# Altium footprint library NSC Audio.PcbLib: 147 footprints (part 6 of 10)
Each footprint in its own frame and in the unit in brackets; x right, y up, seen from the top. Pads: shape width x height; smd on the part's side, far side on the other; paste and mask are expansions set on the pad; w line width, h text height; cw(c..) or ccw(c..) is an arc to the next point about the centre after c.
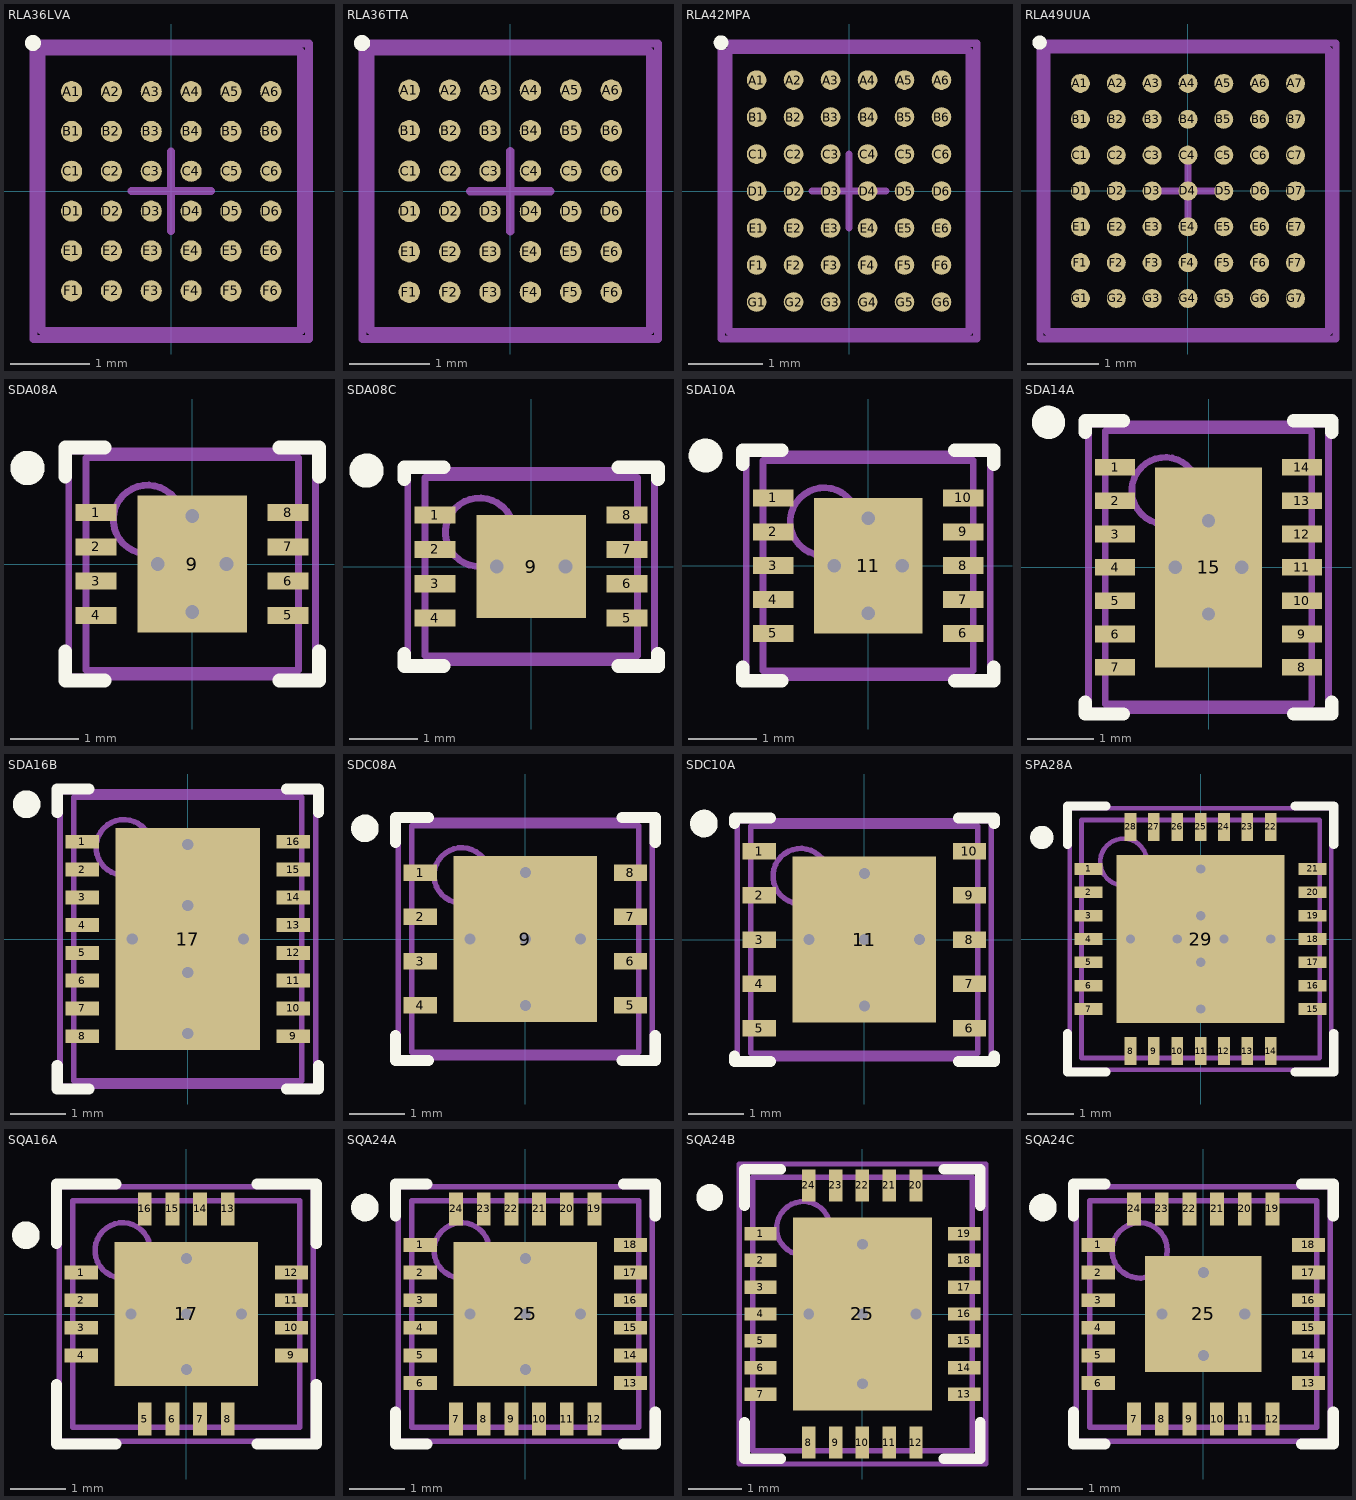
[diagram p5: the footprints below, top view; thin cyan lines are the x and y axes]

## RLA36LVA [mm] "Micro SMD, 36-Leads, Body 3.51x3.26mm, Pitch 0.5mm, NSC Recommended"
height 0.68
pads (36):
  round 0.265 smd paste-0.132 mask+0.05: A1(-1.25,1.25) A2(-0.75,1.25) A3(-0.25,1.25) A4(0.25,1.25) A5(0.75,1.25) A6(1.25,1.25) B1(-1.25,0.75) B2(-0.75,0.75) B3(-0.25,0.75) B4(0.25,0.75) B5(0.75,0.75) B6(1.25,0.75) C1(-1.25,0.25) C2(-0.75,0.25) C3(-0.25,0.25) C4(0.25,0.25) C5(0.75,0.25) C6(1.25,0.25) D1(-1.25,-0.25) D2(-0.75,-0.25) D3(-0.25,-0.25) D4(0.25,-0.25) D5(0.75,-0.25) D6(1.25,-0.25) E1(-1.25,-0.75) E2(-0.75,-0.75) E3(-0.25,-0.75) E4(0.25,-0.75) E5(0.75,-0.75) E6(1.25,-0.75) F1(-1.25,-1.25) F2(-0.75,-1.25) F3(-0.25,-1.25) F4(0.25,-1.25) F5(0.75,-1.25) F6(1.25,-1.25)
Top Overlay:
  circle w0.1: c-1.735,1.86 r0.05
Top Paste:
  drawing of 324 lines, arcs and shapes, not listed
Mechanical 13:
  lines w0.1: -1.63,-1.755 1.63,-1.755 1.63,1.755 -1.63,1.755 -1.63,-1.755
Mechanical 15:
  lines w0.1: -0.5,0 0.5,0 ; 0,-0.5 0,0.5 ; -1.73,-1.855 1.73,-1.855 1.73,1.855 -1.73,1.855 -1.73,-1.855
3D body: height 0.68, standoff 0, extent -1.63,-1.755 1.63,1.755

## RLA36TTA [mm] "Micro SMD, 36-Leads, Body 3.46x3.46mm, Pitch 0.5mm, NSC Recommended"
height 0.68
pads (36):
  round 0.265 smd paste-0.132 mask+0.05: A1(-1.25,1.25) A2(-0.75,1.25) A3(-0.25,1.25) A4(0.25,1.25) A5(0.75,1.25) A6(1.25,1.25) B1(-1.25,0.75) B2(-0.75,0.75) B3(-0.25,0.75) B4(0.25,0.75) B5(0.75,0.75) B6(1.25,0.75) C1(-1.25,0.25) C2(-0.75,0.25) C3(-0.25,0.25) C4(0.25,0.25) C5(0.75,0.25) C6(1.25,0.25) D1(-1.25,-0.25) D2(-0.75,-0.25) D3(-0.25,-0.25) D4(0.25,-0.25) D5(0.75,-0.25) D6(1.25,-0.25) E1(-1.25,-0.75) E2(-0.75,-0.75) E3(-0.25,-0.75) E4(0.25,-0.75) E5(0.75,-0.75) E6(1.25,-0.75) F1(-1.25,-1.25) F2(-0.75,-1.25) F3(-0.25,-1.25) F4(0.25,-1.25) F5(0.75,-1.25) F6(1.25,-1.25)
Top Overlay:
  circle w0.1: c-1.835,1.835 r0.05
Top Paste:
  drawing of 324 lines, arcs and shapes, not listed
Mechanical 13:
  lines w0.1: -1.73,-1.73 1.73,-1.73 1.73,1.73 -1.73,1.73 -1.73,-1.73
Mechanical 15:
  lines w0.1: -0.5,0 0.5,0 ; 0,-0.5 0,0.5 ; -1.83,-1.83 1.83,-1.83 1.83,1.83 -1.83,1.83 -1.83,-1.83
3D body: height 0.68, standoff 0, extent -1.73,-1.73 1.73,1.73

## RLA42MPA [mm] "Micro SMD, 42-Leads, Body 3.8x3.25mm, Pitch 0.5mm, NSC Recommended"
height 0.73
pads (42):
  round 0.265 smd paste-0.132 mask+0.05: A1(-1.25,1.5) A2(-0.75,1.5) A3(-0.25,1.5) A4(0.25,1.5) A5(0.75,1.5) A6(1.25,1.5) B1(-1.25,1) B2(-0.75,1) B3(-0.25,1) B4(0.25,1) B5(0.75,1) B6(1.25,1) C1(-1.25,0.5) C2(-0.75,0.5) C3(-0.25,0.5) C4(0.25,0.5) C5(0.75,0.5) C6(1.25,0.5) D1(-1.25,0) D2(-0.75,0) D3(-0.25,0) D4(0.25,0) D5(0.75,0) D6(1.25,0) E1(-1.25,-0.5) E2(-0.75,-0.5) E3(-0.25,-0.5) E4(0.25,-0.5) E5(0.75,-0.5) E6(1.25,-0.5) F1(-1.25,-1) F2(-0.75,-1) F3(-0.25,-1) F4(0.25,-1) F5(0.75,-1) F6(1.25,-1) G1(-1.25,-1.5) G2(-0.75,-1.5) G3(-0.25,-1.5) G4(0.25,-1.5) G5(0.75,-1.5) G6(1.25,-1.5)
Top Overlay:
  circle w0.1: c-1.73,2.005 r0.05
Top Paste:
  drawing of 378 lines, arcs and shapes, not listed
Mechanical 13:
  lines w0.1: -1.625,-1.9 1.625,-1.9 1.625,1.9 -1.625,1.9 -1.625,-1.9
Mechanical 15:
  lines w0.1: -0.5,0 0.5,0 ; 0,-0.5 0,0.5 ; -1.725,-2 1.725,-2 1.725,2 -1.725,2 -1.725,-2
3D body: height 0.73, standoff 0, extent -1.625,-1.9 1.625,1.9

## RLA49UUA [mm] "Micro SMD, 49-Leads, Body 3.93x3.93mm, Pitch 0.5mm, NSC Recommended"
height 0.73
pads (49):
  round 0.265 smd paste-0.132 mask+0.05: A1(-1.5,1.5) A2(-1,1.5) A3(-0.5,1.5) A4(0,1.5) A5(0.5,1.5) A6(1,1.5) A7(1.5,1.5) B1(-1.5,1) B2(-1,1) B3(-0.5,1) B4(0,1) B5(0.5,1) B6(1,1) B7(1.5,1) C1(-1.5,0.5) C2(-1,0.5) C3(-0.5,0.5) C4(0,0.5) C5(0.5,0.5) C6(1,0.5) C7(1.5,0.5) D1(-1.5,0) D2(-1,0) D3(-0.5,0) D4(0,0) D5(0.5,0) D6(1,0) D7(1.5,0) E1(-1.5,-0.5) E2(-1,-0.5) E3(-0.5,-0.5) E4(0,-0.5) E5(0.5,-0.5) E6(1,-0.5) E7(1.5,-0.5) F1(-1.5,-1) F2(-1,-1) F3(-0.5,-1) F4(0,-1) F5(0.5,-1) F6(1,-1) F7(1.5,-1) G1(-1.5,-1.5) G2(-1,-1.5) G3(-0.5,-1.5) G4(0,-1.5) G5(0.5,-1.5) G6(1,-1.5) G7(1.5,-1.5)
Top Overlay:
  circle w0.1: c-2.07,2.07 r0.05
Top Paste:
  drawing of 441 lines, arcs and shapes, not listed
Mechanical 13:
  lines w0.1: -1.965,-1.965 -1.965,1.965 1.965,1.965 1.965,-1.965 -1.965,-1.965
Mechanical 15:
  lines w0.1: -0.5,0 0.5,0 ; 0,-0.5 0,0.5 ; -2.065,-2.065 -2.065,2.065 2.065,2.065 2.065,-2.065 -2.065,-2.065
3D body: height 0.73, standoff 0, extent -1.965,-1.965 1.965,1.965

## SDA08A [mm] "SON, 8-Leads, Body 3x3mm, Pitch 0.5mm, NSC Recommended"
height 0.8
pads (9):
  rect 0.6x0.25 smd paste-0.125 mask+0.051: 1(-1.4,0.75) 2(-1.4,0.25) 3(-1.4,-0.25) 4(-1.4,-0.75) 5(1.4,-0.75) 6(1.4,-0.25) 7(1.4,0.25) 8(1.4,0.75)
  rect 1.6x2 smd paste-0.05 mask+0.051: 9(0,0)
via 0,-0.7 diameter 0.5 hole 0.2
via 0,0.7 diameter 0.5 hole 0.2
via 0.5,0 diameter 0.5 hole 0.2
via -0.5,0 diameter 0.5 hole 0.2
Top Overlay:
  circle w0.25: c-2.4,1.4 r0.125
  lines w0.2: -1.85,-1.275 -1.85,-1.7 -1.275,-1.7 ; -1.85,1.275 -1.85,1.7 -1.275,1.7 ; 1.275,-1.7 1.85,-1.7 1.85,-1.275 ; 1.275,1.7 1.85,1.7 1.85,1.275
Top Paste:
  region: -1.9,0.875 -1.9,0.625 -1.2,0.625 -1.2,0.875
  region: -1.9,0.375 -1.9,0.125 -1.2,0.125 -1.2,0.375
  region: -1.9,-0.125 -1.9,-0.375 -1.2,-0.375 -1.2,-0.125
  region: -1.9,-0.625 -1.9,-0.875 -1.2,-0.875 -1.2,-0.625
  region: 1.2,-0.625 1.2,-0.875 1.9,-0.875 1.9,-0.625
  region: 1.2,-0.125 1.2,-0.375 1.9,-0.375 1.9,-0.125
  region: 1.2,0.375 1.2,0.125 1.9,0.125 1.9,0.375
  region: 1.2,0.875 1.2,0.625 1.9,0.625 1.9,0.875
Mechanical 13:
  circle w0.1: c-0.65,0.65 r0.5
  lines w0.1: -1.55,-1.55 -1.55,1.55 1.55,1.55 1.55,-1.55 -1.55,-1.55
Mechanical 15:
  lines w0.1: -0.5,0 0.5,0 ; 0,-0.5 0,0.5 ; -1.8,-1.65 -1.8,1.65 1.8,1.65 1.8,-1.65 -1.8,-1.65
3D body: height 0.8, standoff 0, extent -1.55,-1.55 1.55,1.55

## SDA08C [mm] "SON, 8-Leads, Body 2.5x3mm, Pitch 0.5mm, NSC Recommended"
height 0.8
pads (9):
  rect 0.6x0.25 smd paste-0.125 mask+0.051: 1(-1.4,0.75) 2(-1.4,0.25) 3(-1.4,-0.25) 4(-1.4,-0.75) 5(1.4,-0.75) 6(1.4,-0.25) 7(1.4,0.25) 8(1.4,0.75)
  rect 1.6x1.5 smd paste-0.05 mask+0.051: 9(0,0)
via 0.5,0 diameter 0.5 hole 0.2
via -0.5,0 diameter 0.5 hole 0.2
Top Overlay:
  circle w0.25: c-2.4,1.4 r0.125
  lines w0.2: -1.85,-1.275 -1.85,-1.45 -1.275,-1.45 ; -1.85,1.275 -1.85,1.45 -1.275,1.45 ; 1.275,-1.45 1.85,-1.45 1.85,-1.275 ; 1.275,1.45 1.85,1.45 1.85,1.275
Top Paste:
  region: -1.9,0.875 -1.9,0.625 -1.2,0.625 -1.2,0.875
  region: -1.9,0.375 -1.9,0.125 -1.2,0.125 -1.2,0.375
  region: -1.9,-0.125 -1.9,-0.375 -1.2,-0.375 -1.2,-0.125
  region: -1.9,-0.625 -1.9,-0.875 -1.2,-0.875 -1.2,-0.625
  region: 1.2,-0.625 1.2,-0.875 1.9,-0.875 1.9,-0.625
  region: 1.2,-0.125 1.2,-0.375 1.9,-0.375 1.9,-0.125
  region: 1.2,0.375 1.2,0.125 1.9,0.125 1.9,0.375
  region: 1.2,0.875 1.2,0.625 1.9,0.625 1.9,0.875
Mechanical 13:
  circle w0.1: c-0.75,0.5 r0.5
  lines w0.1: -1.55,-1.3 -1.55,1.3 1.55,1.3 1.55,-1.3 -1.55,-1.3
Mechanical 15:
  lines w0.1: -0.5,0 0.5,0 ; 0,-0.5 0,0.5 ; -1.8,-1.4 1.8,-1.4 1.8,1.4 -1.8,1.4 -1.8,-1.4
3D body: height 0.8, standoff 0, extent -1.549,-1.299 1.549,1.299

## SDA10A [mm] "SON, 10-Leads, Body 3x3 mm, Pitch 0.5mm, NSC Recommended"
height 0.8
pads (11):
  rect 0.6x0.25 smd paste-0.125 mask+0.051: 1(-1.4,1) 2(-1.4,0.5) 3(-1.4,0) 4(-1.4,-0.5) 5(-1.4,-1) 6(1.4,-1) 7(1.4,-0.5) 8(1.4,0) 9(1.4,0.5) 10(1.4,1)
  rect 1.6x2 smd paste-0.05 mask+0.051: 11(0,0)
via -0.5,0 diameter 0.5 hole 0.2
via 0.5,0 diameter 0.5 hole 0.2
via 0,0.7 diameter 0.5 hole 0.2
via 0,-0.7 diameter 0.5 hole 0.2
Top Overlay:
  circle w0.25: c-2.4,1.625 r0.125
  lines w0.2: -1.85,-1.5 -1.85,-1.7 -1.275,-1.7 ; -1.85,1.5 -1.85,1.7 -1.275,1.7 ; 1.275,-1.7 1.85,-1.7 1.85,-1.5 ; 1.275,1.7 1.85,1.7 1.85,1.5
Top Paste:
  rectangle: -1.9,0.875 -1.2,1.125
  rectangle: -1.9,0.375 -1.2,0.625
  rectangle: -1.9,-0.125 -1.2,0.125
  rectangle: -1.9,-0.625 -1.2,-0.375
  rectangle: -1.9,-1.125 -1.2,-0.875
  region: 1.9,1.125 1.2,1.125 1.2,0.875 1.9,0.875
  region: 1.9,0.625 1.2,0.625 1.2,0.375 1.9,0.375
  region: 1.9,0.125 1.2,0.125 1.2,-0.125 1.9,-0.125
  region: 1.9,-0.375 1.2,-0.375 1.2,-0.625 1.9,-0.625
  region: 1.9,-0.875 1.2,-0.875 1.2,-1.125 1.9,-1.125
Mechanical 13:
  circle w0.1: c-0.65,0.65 r0.5
  lines w0.1: -1.55,-1.55 -1.55,1.55 1.55,1.55 1.55,-1.55 -1.55,-1.55
Mechanical 15:
  lines w0.1: -0.5,0 0.5,0 ; 0,-0.5 0,0.5 ; -1.8,-1.65 -1.8,1.65 1.8,1.65 1.8,-1.65 -1.8,-1.65
3D body: height 0.8, standoff 0, extent -1.55,-1.55 1.55,1.55

## SDA14A [mm] "SON, 14-Leads, Body 4x3mm, Pitch 0.5mm, NSC Recommended"
height 0.8
pads (15):
  rect 0.6x0.25 smd paste-0.125 mask+0.051: 1(-1.4,1.5) 2(-1.4,1) 3(-1.4,0.5) 4(-1.4,0) 5(-1.4,-0.5) 6(-1.4,-1) 7(-1.4,-1.5) 8(1.4,-1.5) 9(1.4,-1) 10(1.4,-0.5) 11(1.4,0) 12(1.4,0.5) 13(1.4,1) 14(1.4,1.5)
  rect 1.6x3 smd paste-0.8 mask+0.051: 15(0,0)
via -0.5,0 diameter 0.5 hole 0.2
via 0.5,0 diameter 0.5 hole 0.2
via 0,0.7 diameter 0.5 hole 0.2
via 0,-0.7 diameter 0.5 hole 0.2
Top Overlay:
  circle w0.25: c-2.4,2.175 r0.125
  lines w0.2: -1.85,-2.025 -1.85,-2.2 -1.275,-2.2 ; -1.85,2.025 -1.85,2.2 -1.275,2.2 ; 1.275,-2.2 1.85,-2.2 1.85,-2.025 ; 1.275,2.2 1.85,2.2 1.85,2.025
Top Paste:
  region: -0.7,-0.1 -0.7,-1.4 -0.1,-1.4 -0.1,-0.1
  region: -0.1,0.1 -0.1,1.4 -0.7,1.4 -0.7,0.1
  region: 0.7,0.1 0.7,1.4 0.1,1.4 0.1,0.1
  region: 0.1,-0.1 0.1,-1.4 0.7,-1.4 0.7,-0.1
  region: 1.2,1.625 1.2,1.375 1.9,1.375 1.9,1.625
  region: 1.2,1.125 1.2,0.875 1.9,0.875 1.9,1.125
  region: 1.2,0.625 1.2,0.375 1.9,0.375 1.9,0.625
  region: 1.2,0.125 1.2,-0.125 1.9,-0.125 1.9,0.125
  region: 1.2,-0.375 1.2,-0.625 1.9,-0.625 1.9,-0.375
  region: 1.2,-0.875 1.2,-1.125 1.9,-1.125 1.9,-0.875
  region: 1.2,-1.375 1.2,-1.625 1.9,-1.625 1.9,-1.375
  region: -1.9,-1.375 -1.9,-1.625 -1.2,-1.625 -1.2,-1.375
  region: -1.9,-0.875 -1.9,-1.125 -1.2,-1.125 -1.2,-0.875
  region: -1.9,-0.375 -1.9,-0.625 -1.2,-0.625 -1.2,-0.375
  region: -1.9,0.125 -1.9,-0.125 -1.2,-0.125 -1.2,0.125
  region: -1.9,0.625 -1.9,0.375 -1.2,0.375 -1.2,0.625
  region: -1.9,1.125 -1.9,0.875 -1.2,0.875 -1.2,1.125
  region: -1.9,1.625 -1.9,1.375 -1.2,1.375 -1.2,1.625
Mechanical 13:
  circle w0.1: c-0.65,1.15 r0.5
  lines w0.1: -1.55,-2.05 1.55,-2.05 1.55,2.05 -1.55,2.05 -1.55,-2.05
Mechanical 15:
  lines w0.1: -0.5,0 0.5,0 ; 0,-0.5 0,0.5 ; -1.8,-2.15 1.8,-2.15 1.8,2.15 -1.8,2.15 -1.8,-2.15
3D body: height 0.8, standoff 0, extent -1.55,-2.05 1.55,2.05

## SDA16B [mm] "SON, 16-Leads, Body 5x4mm, Pitch 0.5mm, NSC Recommended"
height 0.8
pads (17):
  rect 0.6x0.25 smd paste-0.125 mask+0.051: 1(-1.9,1.75) 2(-1.9,1.25) 3(-1.9,0.75) 4(-1.9,0.25) 5(-1.9,-0.25) 6(-1.9,-0.75) 7(-1.9,-1.25) 8(-1.9,-1.75) 9(1.9,-1.75) 10(1.9,-1.25) 11(1.9,-0.75) 12(1.9,-0.25) 13(1.9,0.25) 14(1.9,0.75) 15(1.9,1.25) 16(1.9,1.75)
  rect 2.6x4 smd paste-1.3 mask+0.051: 17(0,0)
via 0,-1.7 diameter 0.5 hole 0.2
via 0,1.7 diameter 0.5 hole 0.2
via -1,0 diameter 0.5 hole 0.2
via 1,0 diameter 0.5 hole 0.2
via 0,-0.6 diameter 0.5 hole 0.2
via 0,0.6 diameter 0.5 hole 0.2
Top Overlay:
  circle w0.25: c-2.9,2.425 r0.125
  lines w0.2: -2.35,-2.275 -2.35,-2.7 -1.775,-2.7 ; -2.35,2.275 -2.35,2.7 -1.775,2.7 ; 1.775,-2.7 2.35,-2.7 2.35,-2.275 ; 1.775,2.7 2.35,2.7 2.35,2.275
Top Paste:
  region: -2.4,-1.625 -2.4,-1.875 -1.7,-1.875 -1.7,-1.625
  region: -2.4,-1.125 -2.4,-1.375 -1.7,-1.375 -1.7,-1.125
  region: -2.4,-0.625 -2.4,-0.875 -1.7,-0.875 -1.7,-0.625
  region: -2.4,-0.125 -2.4,-0.375 -1.7,-0.375 -1.7,-0.125
  region: -2.4,0.375 -2.4,0.125 -1.7,0.125 -1.7,0.375
  region: -2.4,0.875 -2.4,0.625 -1.7,0.625 -1.7,0.875
  region: -2.4,1.375 -2.4,1.125 -1.7,1.125 -1.7,1.375
  region: -2.4,1.875 -2.4,1.625 -1.7,1.625 -1.7,1.875
  region: 1.7,1.875 1.7,1.625 2.4,1.625 2.4,1.875
  region: 1.7,1.375 1.7,1.125 2.4,1.125 2.4,1.375
  region: 1.7,0.875 1.7,0.625 2.4,0.625 2.4,0.875
  region: 1.7,0.375 1.7,0.125 2.4,0.125 2.4,0.375
  region: 1.7,-0.125 1.7,-0.375 2.4,-0.375 2.4,-0.125
  region: 1.7,-0.625 1.7,-0.875 2.4,-0.875 2.4,-0.625
  region: 1.7,-1.125 1.7,-1.375 2.4,-1.375 2.4,-1.125
  region: 1.7,-1.625 1.7,-1.875 2.4,-1.875 2.4,-1.625
  rectangle: 0.1,0.1 1.2,1.9
  region: -0.1,1.9 -1.2,1.9 -1.2,0.1 -0.1,0.1
  region: -0.1,-0.1 -1.2,-0.1 -1.2,-1.9 -0.1,-1.9
  rectangle: 0.1,-1.9 1.2,-0.1
Mechanical 13:
  circle w0.1: c-1.15,1.65 r0.5
  lines w0.1: -2.05,-2.55 2.05,-2.55 2.05,2.55 -2.05,2.55 -2.05,-2.55
Mechanical 15:
  lines w0.1: -0.5,0 0.5,0 ; 0,-0.5 0,0.5 ; -2.3,-2.65 2.3,-2.65 2.3,2.65 -2.3,2.65 -2.3,-2.65
3D body: height 0.8, standoff 0, extent -2.049,-2.549 2.049,2.549

## SDC08A [mm] "SON, 8-Leads, Body 4x4mm, Pitch 0.8mm, NSC Recommended"
height 0.8
pads (9):
  rect 0.6x0.3 smd paste-0.15 mask+0.051: 1(-1.9,1.2) 2(-1.9,0.4) 3(-1.9,-0.4) 4(-1.9,-1.2) 5(1.9,-1.2) 6(1.9,-0.4) 7(1.9,0.4) 8(1.9,1.2)
  rect 2.6x3 smd paste-1.5 mask+0.051: 9(0,0)
via -1,0 diameter 0.5 hole 0.2
via 0,0 diameter 0.5 hole 0.2
via 1,0 diameter 0.5 hole 0.2
via 0,1.2 diameter 0.5 hole 0.2
via 0,-1.2 diameter 0.5 hole 0.2
Top Overlay:
  circle w0.25: c-2.9,2 r0.125
  lines w0.2: -2.35,-1.75 -2.35,-2.2 -1.75,-2.2 ; -2.35,1.75 -2.35,2.2 -1.75,2.2 ; 1.75,-2.2 2.35,-2.2 2.35,-1.75 ; 1.75,2.2 2.35,2.2 2.35,1.75
Top Paste:
  rectangle: -1.2,-1.4 -0.1,-0.1
  region: 1.2,-0.1 0.1,-0.1 0.1,-1.4 1.2,-1.4
  region: 1.2,1.4 0.1,1.4 0.1,0.1 1.2,0.1
  rectangle: -1.2,0.1 -0.1,1.4
  rectangle: 1.7,1.05 2.4,1.35
  rectangle: 1.7,0.25 2.4,0.55
  rectangle: 1.7,-0.55 2.4,-0.25
  rectangle: 1.7,-1.35 2.4,-1.05
  region: -1.7,-1.05 -2.4,-1.05 -2.4,-1.35 -1.7,-1.35
  region: -1.7,-0.25 -2.4,-0.25 -2.4,-0.55 -1.7,-0.55
  region: -1.7,0.55 -2.4,0.55 -2.4,0.25 -1.7,0.25
  region: -1.7,1.35 -2.4,1.35 -2.4,1.05 -1.7,1.05
Mechanical 13:
  circle w0.1: c-1.15,1.15 r0.5
  lines w0.1: -2.05,-2.05 2.05,-2.05 2.05,2.05 -2.05,2.05 -2.05,-2.05
Mechanical 15:
  lines w0.1: -0.5,0 0.5,0 ; 0,-0.5 0,0.5 ; -2.3,-2.15 2.3,-2.15 2.3,2.15 -2.3,2.15 -2.3,-2.15
3D body: height 0.8, standoff 0, extent -2.05,-2.05 2.05,2.05

## SDC10A [mm] "SON, 10-Leads, Body 4x4 mm, Pitch 0.8mm, NSC Recommended"
height 0.8
pads (11):
  rect 0.6x0.3 smd paste-0.15 mask+0.051: 1(-1.9,1.6) 2(-1.9,0.8) 3(-1.9,0) 4(-1.9,-0.8) 5(-1.9,-1.6) 6(1.9,-1.6) 7(1.9,-0.8) 8(1.9,0) 9(1.9,0.8) 10(1.9,1.6)
  rect 2.6x3 smd paste-1.3 mask+0.051: 11(0,0)
via -1,0 diameter 0.5 hole 0.2
via 0,-1.2 diameter 0.5 hole 0.2
via 0,0 diameter 0.5 hole 0.2
via 0,1.2 diameter 0.5 hole 0.2
via 1,0 diameter 0.5 hole 0.2
Top Overlay:
  circle w0.25: c-2.9,2.1 r0.125
  lines w0.2: -2.35,-2.2 -2.35,-2.1 ; -2.35,2.1 -2.35,2.2 ; -2.345,-2.2 -1.7,-2.2 ; -2.345,2.2 -1.7,2.2 ; 1.7,-2.2 2.345,-2.2 ; 1.7,2.2 2.345,2.2 ; 2.35,-2.2 2.35,-2.1 ; 2.35,2.1 2.35,2.2
Top Paste:
  rectangle: 0.1,-1.4 1.2,-0.1
  region: -0.1,-0.1 -1.2,-0.1 -1.2,-1.4 -0.1,-1.4
  region: -0.1,1.4 -1.2,1.4 -1.2,0.1 -0.1,0.1
  rectangle: 0.1,0.1 1.2,1.4
  rectangle: -2.4,1.45 -1.7,1.75
  rectangle: -2.4,0.65 -1.7,0.95
  rectangle: -2.4,-0.15 -1.7,0.15
  rectangle: -2.4,-0.95 -1.7,-0.65
  rectangle: -2.4,-1.75 -1.7,-1.45
  region: 2.4,-1.45 1.7,-1.45 1.7,-1.75 2.4,-1.75
  region: 2.4,-0.65 1.7,-0.65 1.7,-0.95 2.4,-0.95
  region: 2.4,0.15 1.7,0.15 1.7,-0.15 2.4,-0.15
  region: 2.4,0.95 1.7,0.95 1.7,0.65 2.4,0.65
  region: 2.4,1.75 1.7,1.75 1.7,1.45 2.4,1.45
Mechanical 13:
  circle w0.1: c-1.15,1.15 r0.5
  lines w0.1: -2.05,-2.05 2.05,-2.05 2.05,2.05 -2.05,2.05 -2.05,-2.05
Mechanical 15:
  lines w0.1: -0.5,0 0.5,0 ; 0,-0.5 0,0.5 ; -2.3,-2.15 2.3,-2.15 2.3,2.15 -2.3,2.15 -2.3,-2.15
3D body: height 0.8, standoff 0, extent -2.049,-2.049 2.049,2.049

## SPA28A [mm] "QFN, 28-Leads, Body 5x5mm, Pitch 0.5mm, NSC Recommended"
height 0.6
pads (29):
  rect 0.6x0.25 smd paste-0.125 mask+0.051: 1(-2.4,1.5) 2(-2.4,1) 3(-2.4,0.5) 4(-2.4,0) 5(-2.4,-0.5) 6(-2.4,-1) 7(-2.4,-1.5) 15(2.4,-1.5) 16(2.4,-1) 17(2.4,-0.5) 18(2.4,0) 19(2.4,0.5) 20(2.4,1) 21(2.4,1.5)
  rect 0.25x0.6 smd paste-0.125 mask+0.051: 8(-1.5,-2.4) 9(-1,-2.4) 10(-0.5,-2.4) 11(0,-2.4) 12(0.5,-2.4) 13(1,-2.4) 14(1.5,-2.4) 22(1.5,2.4) 23(1,2.4) 24(0.5,2.4) 25(0,2.4) 26(-0.5,2.4) 27(-1,2.4) 28(-1.5,2.4)
  rect 3.6x3.6 smd paste-1.8 mask+0.051: 29(0,0)
via -1.5,0 diameter 0.5 hole 0.2
via 0,-1.5 diameter 0.5 hole 0.2
via 0,1.5 diameter 0.5 hole 0.2
via 1.5,0 diameter 0.5 hole 0.2
via -0.5,0 diameter 0.5 hole 0.2
via 0.5,0 diameter 0.5 hole 0.2
via 0,-0.5 diameter 0.5 hole 0.2
via 0,0.5 diameter 0.5 hole 0.2
Top Overlay:
  circle w0.25: c-3.4,2.175 r0.125
  lines w0.2: -2.85,-2.025 -2.85,-2.85 -2.025,-2.85 ; -2.85,2.025 -2.85,2.85 -2.025,2.85 ; 2.025,-2.85 2.85,-2.85 2.85,-2.025 ; 2.025,2.85 2.85,2.85 2.85,2.025
Top Paste:
  rectangle: 0.15,-1.7 1.7,-0.15
  region: -0.15,-0.15 -1.7,-0.15 -1.7,-1.7 -0.15,-1.7
  region: -0.15,1.7 -1.7,1.7 -1.7,0.15 -0.15,0.15
  rectangle: 0.15,0.15 1.7,1.7
  region: -1.375,-2.9 -1.375,-2.2 -1.625,-2.2 -1.625,-2.9
  region: -0.875,-2.9 -0.875,-2.2 -1.125,-2.2 -1.125,-2.9
  region: -0.375,-2.9 -0.375,-2.2 -0.625,-2.2 -0.625,-2.9
  region: 0.125,-2.9 0.125,-2.2 -0.125,-2.2 -0.125,-2.9
  region: 0.625,-2.9 0.625,-2.2 0.375,-2.2 0.375,-2.9
  region: 1.125,-2.9 1.125,-2.2 0.875,-2.2 0.875,-2.9
  region: 1.625,-2.9 1.625,-2.2 1.375,-2.2 1.375,-2.9
  region: -1.625,2.9 -1.625,2.2 -1.375,2.2 -1.375,2.9
  region: -1.125,2.9 -1.125,2.2 -0.875,2.2 -0.875,2.9
  region: -0.625,2.9 -0.625,2.2 -0.375,2.2 -0.375,2.9
  region: -0.125,2.9 -0.125,2.2 0.125,2.2 0.125,2.9
  region: 0.375,2.9 0.375,2.2 0.625,2.2 0.625,2.9
  region: 0.875,2.9 0.875,2.2 1.125,2.2 1.125,2.9
  region: 1.375,2.9 1.375,2.2 1.625,2.2 1.625,2.9
  region: 2.9,1.625 2.2,1.625 2.2,1.375 2.9,1.375
  region: 2.9,1.125 2.2,1.125 2.2,0.875 2.9,0.875
  region: 2.9,0.625 2.2,0.625 2.2,0.375 2.9,0.375
  region: 2.9,0.125 2.2,0.125 2.2,-0.125 2.9,-0.125
  region: 2.9,-0.375 2.2,-0.375 2.2,-0.625 2.9,-0.625
  region: 2.9,-0.875 2.2,-0.875 2.2,-1.125 2.9,-1.125
  region: 2.9,-1.375 2.2,-1.375 2.2,-1.625 2.9,-1.625
  rectangle: -2.9,-1.625 -2.2,-1.375
  rectangle: -2.9,-1.125 -2.2,-0.875
  rectangle: -2.9,-0.625 -2.2,-0.375
  rectangle: -2.9,-0.125 -2.2,0.125
  rectangle: -2.9,0.375 -2.2,0.625
  rectangle: -2.9,0.875 -2.2,1.125
  rectangle: -2.9,1.375 -2.2,1.625
Mechanical 13:
  circle w0.1: c-1.65,1.65 r0.5
  lines w0.1: -2.55,-2.55 -2.55,2.55 2.55,2.55 2.55,-2.55 -2.55,-2.55
Mechanical 15:
  lines w0.1: -0.5,0 0.5,0 ; 0,-0.5 0,0.5 ; -2.8,-2.8 -2.8,2.8 2.8,2.8 2.8,-2.8 -2.8,-2.8
3D body: height 0.6, standoff 0, extent -2.55,-2.55 2.55,2.55

## SQA16A [mm] "QFN, 16-Leads, Body 4x4mm, Pitch 0.5mm, NSC Recommended"
height 0.8
pads (17):
  rect 0.6x0.25 smd paste-0.125 mask+0.051: 1(-1.9,0.75) 2(-1.9,0.25) 3(-1.9,-0.25) 4(-1.9,-0.75) 9(1.9,-0.75) 10(1.9,-0.25) 11(1.9,0.25) 12(1.9,0.75)
  rect 0.25x0.6 smd paste-0.125 mask+0.051: 5(-0.75,-1.9) 6(-0.25,-1.9) 7(0.25,-1.9) 8(0.75,-1.9) 13(0.75,1.9) 14(0.25,1.9) 15(-0.25,1.9) 16(-0.75,1.9)
  rect 2.6x2.6 smd paste-1.3 mask+0.051: 17(0,0)
via 0,0 diameter 0.5 hole 0.2
via 1,0 diameter 0.5 hole 0.2
via -1,0 diameter 0.5 hole 0.2
via 0,1 diameter 0.5 hole 0.2
via 0,-1 diameter 0.5 hole 0.2
Top Overlay:
  circle w0.25: c-2.9,1.425 r0.125
  lines w0.2: -2.35,-1.275 -2.35,-2.35 -1.275,-2.35 ; -2.35,1.275 -2.35,2.35 -1.275,2.35 ; 1.275,-2.35 2.35,-2.35 2.35,-1.275 ; 1.275,2.35 2.35,2.35 2.35,1.275
Top Paste:
  region: -0.625,-2.4 -0.625,-1.7 -0.875,-1.7 -0.875,-2.4
  region: -0.125,-2.4 -0.125,-1.7 -0.375,-1.7 -0.375,-2.4
  region: 0.375,-2.4 0.375,-1.7 0.125,-1.7 0.125,-2.4
  region: 0.875,-2.4 0.875,-1.7 0.625,-1.7 0.625,-2.4
  region: 0.625,2.4 0.625,1.7 0.875,1.7 0.875,2.4
  region: 0.125,2.4 0.125,1.7 0.375,1.7 0.375,2.4
  region: -0.375,2.4 -0.375,1.7 -0.125,1.7 -0.125,2.4
  region: -0.875,2.4 -0.875,1.7 -0.625,1.7 -0.625,2.4
  region: 2.4,-0.625 1.7,-0.625 1.7,-0.875 2.4,-0.875
  region: 2.4,-0.125 1.7,-0.125 1.7,-0.375 2.4,-0.375
  region: 2.4,0.375 1.7,0.375 1.7,0.125 2.4,0.125
  region: 2.4,0.875 1.7,0.875 1.7,0.625 2.4,0.625
  rectangle: -2.4,-0.875 -1.7,-0.625
  rectangle: -2.4,-0.375 -1.7,-0.125
  rectangle: -2.4,0.125 -1.7,0.375
  rectangle: -2.4,0.625 -1.7,0.875
  rectangle: 0.1,0.1 1.2,1.2
  region: -0.1,1.2 -1.2,1.2 -1.2,0.1 -0.1,0.1
  region: -0.1,-0.1 -1.2,-0.1 -1.2,-1.2 -0.1,-1.2
  rectangle: 0.1,-1.2 1.2,-0.1
Mechanical 13:
  circle w0.1: c-1.15,1.15 r0.5
  lines w0.1: -2.05,-2.05 2.05,-2.05 2.05,2.05 -2.05,2.05 -2.05,-2.05
Mechanical 15:
  lines w0.1: -0.5,0 0.5,0 ; 0,-0.5 0,0.5 ; -2.3,-2.3 2.3,-2.3 2.3,2.3 -2.3,2.3 -2.3,-2.3
3D body: height 0.8, standoff 0, extent -2.05,-2.05 2.05,2.05

## SQA24A [mm] "QFN, 24-Leads, Body 4x4mm, Pitch 0.5mm, NSC Recommended"
height 0.8
pads (25):
  rect 0.6x0.25 smd paste-0.125 mask+0.051: 1(-1.9,1.25) 2(-1.9,0.75) 3(-1.9,0.25) 4(-1.9,-0.25) 5(-1.9,-0.75) 6(-1.9,-1.25) 13(1.9,-1.25) 14(1.9,-0.75) 15(1.9,-0.25) 16(1.9,0.25) 17(1.9,0.75) 18(1.9,1.25)
  rect 0.25x0.6 smd paste-0.125 mask+0.051: 7(-1.25,-1.9) 8(-0.75,-1.9) 9(-0.25,-1.9) 10(0.25,-1.9) 11(0.75,-1.9) 12(1.25,-1.9) 19(1.25,1.9) 20(0.75,1.9) 21(0.25,1.9) 22(-0.25,1.9) 23(-0.75,1.9) 24(-1.25,1.9)
  rect 2.6x2.6 smd paste-1.3 mask+0.051: 25(0,0)
via 0,0 diameter 0.5 hole 0.2
via 1,0 diameter 0.5 hole 0.2
via -1,0 diameter 0.5 hole 0.2
via 0,1 diameter 0.5 hole 0.2
via 0,-1 diameter 0.5 hole 0.2
Top Overlay:
  circle w0.25: c-2.9,1.925 r0.125
  lines w0.2: -2.35,-1.775 -2.35,-2.35 -1.775,-2.35 ; -2.35,1.775 -2.35,2.35 -1.775,2.35 ; 1.775,-2.35 2.35,-2.35 2.35,-1.775 ; 1.775,2.35 2.35,2.35 2.35,1.775
Top Paste:
  region: 1.125,2.4 1.125,1.7 1.375,1.7 1.375,2.4
  region: 0.625,2.4 0.625,1.7 0.875,1.7 0.875,2.4
  region: 0.125,2.4 0.125,1.7 0.375,1.7 0.375,2.4
  region: -0.375,2.4 -0.375,1.7 -0.125,1.7 -0.125,2.4
  region: -0.875,2.4 -0.875,1.7 -0.625,1.7 -0.625,2.4
  region: -1.375,2.4 -1.375,1.7 -1.125,1.7 -1.125,2.4
  region: 2.4,-1.125 1.7,-1.125 1.7,-1.375 2.4,-1.375
  region: 2.4,-0.625 1.7,-0.625 1.7,-0.875 2.4,-0.875
  region: 2.4,-0.125 1.7,-0.125 1.7,-0.375 2.4,-0.375
  region: 2.4,0.375 1.7,0.375 1.7,0.125 2.4,0.125
  region: 2.4,0.875 1.7,0.875 1.7,0.625 2.4,0.625
  region: 2.4,1.375 1.7,1.375 1.7,1.125 2.4,1.125
  region: -1.125,-2.4 -1.125,-1.7 -1.375,-1.7 -1.375,-2.4
  region: -0.625,-2.4 -0.625,-1.7 -0.875,-1.7 -0.875,-2.4
  region: -0.125,-2.4 -0.125,-1.7 -0.375,-1.7 -0.375,-2.4
  region: 0.375,-2.4 0.375,-1.7 0.125,-1.7 0.125,-2.4
  region: 0.875,-2.4 0.875,-1.7 0.625,-1.7 0.625,-2.4
  region: 1.375,-2.4 1.375,-1.7 1.125,-1.7 1.125,-2.4
  rectangle: -2.4,-1.375 -1.7,-1.125
  rectangle: -2.4,-0.875 -1.7,-0.625
  rectangle: -2.4,-0.375 -1.7,-0.125
  rectangle: -2.4,0.125 -1.7,0.375
  rectangle: -2.4,0.625 -1.7,0.875
  rectangle: -2.4,1.125 -1.7,1.375
  rectangle: 0.1,-1.2 1.2,-0.1
  region: -0.1,-0.1 -1.2,-0.1 -1.2,-1.2 -0.1,-1.2
  region: -0.1,1.2 -1.2,1.2 -1.2,0.1 -0.1,0.1
  rectangle: 0.1,0.1 1.2,1.2
Mechanical 13:
  circle w0.1: c-1.15,1.15 r0.5
  lines w0.1: -2.05,-2.05 -2.05,2.05 2.05,2.05 2.05,-2.05 -2.05,-2.05
Mechanical 15:
  lines w0.1: -0.5,0 0.5,0 ; 0,-0.5 0,0.5 ; -2.3,-2.3 -2.3,2.3 2.3,2.3 2.3,-2.3 -2.3,-2.3
3D body: height 0.8, standoff 0, extent -2.05,-2.05 2.05,2.05

## SQA24B [mm] "QFN, 24-Leads, Body 5x4mm, Pitch 0.5mm, NSC Recommended"
height 0.8
pads (25):
  rect 0.6x0.25 smd paste-0.3 mask+0.051: 1(-1.9,1.5) 2(-1.9,1) 3(-1.9,0.5) 4(-1.9,0) 5(-1.9,-0.5) 6(-1.9,-1) 7(-1.9,-1.5) 13(1.9,-1.5) 14(1.9,-1) 15(1.9,-0.5) 16(1.9,0) 17(1.9,0.5) 18(1.9,1) 19(1.9,1.5)
  rect 0.25x0.6 smd paste-0.3 mask+0.051: 8(-1,-2.4) 9(-0.5,-2.4) 10(0,-2.4) 11(0.5,-2.4) 12(1,-2.4) 20(1,2.4) 21(0.5,2.4) 22(0,2.4) 23(-0.5,2.4) 24(-1,2.4)
  rect 2.6x3.6 smd paste-1.3 mask+0.051: 25(0,0)
via 1,0 diameter 0.5 hole 0.2
via 0,1.3 diameter 0.5 hole 0.2
via 0,-1.3 diameter 0.5 hole 0.2
via -1,0 diameter 0.5 hole 0.2
via 0,0 diameter 0.5 hole 0.2
Top Overlay:
  circle w0.25: c-2.85,2.175 r0.125
  lines w0.2: -2.2,-2.025 -2.2,-2.7 -1.525,-2.7 ; -2.2,2.025 -2.2,2.7 -1.525,2.7 ; 1.525,-2.7 2.2,-2.7 2.2,-2.025 ; 1.525,2.7 2.2,2.7 2.2,2.025
Top Paste:
  rectangle: 0.1,-1.7 1.2,-0.1
  region: -0.1,-0.1 -1.2,-0.1 -1.2,-1.7 -0.1,-1.7
  region: -0.1,1.7 -1.2,1.7 -1.2,0.1 -0.1,0.1
  rectangle: 0.1,0.1 1.2,1.7
  region: 2.4,1.625 1.7,1.625 1.7,1.375 2.4,1.375
  region: 2.4,1.125 1.7,1.125 1.7,0.875 2.4,0.875
  region: 2.4,0.625 1.7,0.625 1.7,0.375 2.4,0.375
  region: 2.4,0.125 1.7,0.125 1.7,-0.125 2.4,-0.125
  region: 2.4,-0.375 1.7,-0.375 1.7,-0.625 2.4,-0.625
  region: 2.4,-0.875 1.7,-0.875 1.7,-1.125 2.4,-1.125
  region: 2.4,-1.375 1.7,-1.375 1.7,-1.625 2.4,-1.625
  region: 0.875,2.9 0.875,2.2 1.125,2.2 1.125,2.9
  region: 0.375,2.9 0.375,2.2 0.625,2.2 0.625,2.9
  region: -0.125,2.9 -0.125,2.2 0.125,2.2 0.125,2.9
  region: -0.625,2.9 -0.625,2.2 -0.375,2.2 -0.375,2.9
  region: -1.125,2.9 -1.125,2.2 -0.875,2.2 -0.875,2.9
  rectangle: -2.4,1.375 -1.7,1.625
  rectangle: -2.4,0.875 -1.7,1.125
  rectangle: -2.4,0.375 -1.7,0.625
  rectangle: -2.4,-0.125 -1.7,0.125
  rectangle: -2.4,-0.625 -1.7,-0.375
  rectangle: -2.4,-1.125 -1.7,-0.875
  rectangle: -2.4,-1.625 -1.7,-1.375
  region: -0.875,-2.9 -0.875,-2.2 -1.125,-2.2 -1.125,-2.9
  region: -0.375,-2.9 -0.375,-2.2 -0.625,-2.2 -0.625,-2.9
  region: 0.125,-2.9 0.125,-2.2 -0.125,-2.2 -0.125,-2.9
  region: 0.625,-2.9 0.625,-2.2 0.375,-2.2 0.375,-2.9
  region: 1.125,-2.9 1.125,-2.2 0.875,-2.2 0.875,-2.9
Mechanical 13:
  circle w0.1: c-1.1,1.6 r0.5
  lines w0.1: -2.05,-2.55 -2.05,2.55 2.05,2.55 2.05,-2.55 -2.05,-2.55
Mechanical 15:
  lines w0.1: -0.5,0 0.5,0 ; 0,-0.5 0,0.5 ; -2.3,-2.8 -2.3,2.8 2.3,2.8 2.3,-2.8 -2.3,-2.8
3D body: height 0.8, standoff 0, extent -2.05,-2.55 2.05,2.55

## SQA24C [mm] "QFN, 24-Leads, Body 4x4mm, Pitch 0.5mm, NSC Recommended"
height 0.8
pads (25):
  rect 0.6x0.25 smd paste-0.125 mask+0.051: 1(-1.9,1.25) 2(-1.9,0.75) 3(-1.9,0.25) 4(-1.9,-0.25) 5(-1.9,-0.75) 6(-1.9,-1.25) 13(1.9,-1.25) 14(1.9,-0.75) 15(1.9,-0.25) 16(1.9,0.25) 17(1.9,0.75) 18(1.9,1.25)
  rect 0.25x0.6 smd paste-0.125 mask+0.051: 7(-1.25,-1.9) 8(-0.75,-1.9) 9(-0.25,-1.9) 10(0.25,-1.9) 11(0.75,-1.9) 12(1.25,-1.9) 19(1.25,1.9) 20(0.75,1.9) 21(0.25,1.9) 22(-0.25,1.9) 23(-0.75,1.9) 24(-1.25,1.9)
  rect 2.1x2.1 smd paste-1.05 mask+0.051: 25(0,0)
via 0,-0.75 diameter 0.5 hole 0.2
via 0,0.75 diameter 0.5 hole 0.2
via -0.75,0 diameter 0.5 hole 0.2
via 0.75,0 diameter 0.5 hole 0.2
Top Overlay:
  circle w0.25: c-2.9,1.925 r0.125
  lines w0.2: -2.35,-1.775 -2.35,-2.35 -1.775,-2.35 ; -2.35,1.775 -2.35,2.35 -1.775,2.35 ; 1.775,-2.35 2.35,-2.35 2.35,-1.775 ; 1.775,2.35 2.35,2.35 2.35,1.775
Top Paste:
  rectangle: -2.4,1.125 -1.7,1.375
  rectangle: -2.4,0.625 -1.7,0.875
  rectangle: -2.4,0.125 -1.7,0.375
  rectangle: -2.4,-0.375 -1.7,-0.125
  rectangle: -2.4,-0.875 -1.7,-0.625
  rectangle: -2.4,-1.375 -1.7,-1.125
  region: 1.375,-2.4 1.375,-1.7 1.125,-1.7 1.125,-2.4
  region: 0.875,-2.4 0.875,-1.7 0.625,-1.7 0.625,-2.4
  region: 0.375,-2.4 0.375,-1.7 0.125,-1.7 0.125,-2.4
  region: -0.125,-2.4 -0.125,-1.7 -0.375,-1.7 -0.375,-2.4
  region: -0.625,-2.4 -0.625,-1.7 -0.875,-1.7 -0.875,-2.4
  region: -1.125,-2.4 -1.125,-1.7 -1.375,-1.7 -1.375,-2.4
  region: 2.4,1.375 1.7,1.375 1.7,1.125 2.4,1.125
  region: 2.4,0.875 1.7,0.875 1.7,0.625 2.4,0.625
  region: 2.4,0.375 1.7,0.375 1.7,0.125 2.4,0.125
  region: 2.4,-0.125 1.7,-0.125 1.7,-0.375 2.4,-0.375
  region: 2.4,-0.625 1.7,-0.625 1.7,-0.875 2.4,-0.875
  region: 2.4,-1.125 1.7,-1.125 1.7,-1.375 2.4,-1.375
  region: -1.375,2.4 -1.375,1.7 -1.125,1.7 -1.125,2.4
  region: -0.875,2.4 -0.875,1.7 -0.625,1.7 -0.625,2.4
  region: -0.375,2.4 -0.375,1.7 -0.125,1.7 -0.125,2.4
  region: 0.125,2.4 0.125,1.7 0.375,1.7 0.375,2.4
  region: 0.625,2.4 0.625,1.7 0.875,1.7 0.875,2.4
  region: 1.125,2.4 1.125,1.7 1.375,1.7 1.375,2.4
  rectangle: -0.95,-0.95 0.95,0.95
Mechanical 13:
  circle w0.1: c-1.15,1.15 r0.5
  lines w0.1: -2.05,-2.05 2.05,-2.05 2.05,2.05 -2.05,2.05 -2.05,-2.05
Mechanical 15:
  lines w0.1: -0.5,0 0.5,0 ; 0,-0.5 0,0.5 ; -2.3,-2.3 2.3,-2.3 2.3,2.3 -2.3,2.3 -2.3,-2.3
3D body: height 0.8, standoff 0, extent -2.05,-2.05 2.05,2.05